# Altium footprint library Flight_Controller.PcbLib: 21 footprints (part 2 of 2)
Each footprint in its own frame and in the unit in brackets; x right, y up, seen from the top. Pads: shape width x height; smd on the part's side, far side on the other; paste and mask are expansions set on the pad; w line width, h text height; cw(c..) or ccw(c..) is an arc to the next point about the centre after c.
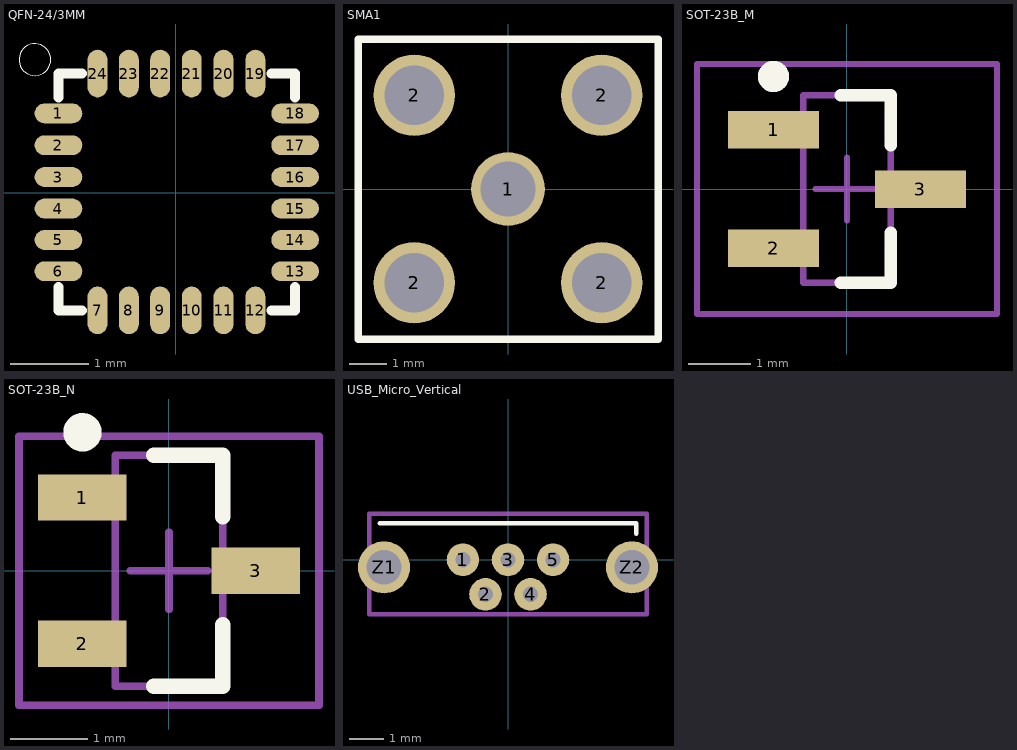
[diagram p1: the footprints below, top view; thin cyan lines are the x and y axes]

## QFN-24/3MM [mil]
pads (24):
  rrect100% 24x10 smd: 1(-59.06,40) 2(-59.06,24) 3(-59.06,8) 4(-59.06,-7.87) 5(-59.06,-23.62) 6(-59.06,-39.37) 13(60,-39.37) 14(60,-23.62) 15(60,-7.87) 16(60,8) 17(60,24) 18(60,40)
  rrect100% 10x24 smd: 7(-39.37,-59.06) 8(-23.62,-59.06) 9(-7.87,-59.06) 10(8,-59.06) 11(24,-59.06) 12(40,-59.06) 19(40,60) 20(24,60) 21(8,60) 22(-7.87,60) 23(-23.62,60) 24(-39.37,60)
Top Overlay:
  circle w0: c-70.87,67 r8
  lines w5: -59.06,-47.24 -59.06,-59.06 -47.24,-59.06 ; -59.06,48 -59.06,60 -47.24,60 ; 48,-59.06 60,-59.06 60,-47.24 ; 48,60 60,60 60,48
3D body: height 35.43, standoff 0, extent -59.1,-59.09 59.09,59.1

## SMA1 [mm]
pads (5):
  round 2 hole 1.5: 1(0,0)
  round 2.2 / inner round 2.2 / far side oval 2.8x2.2 hole 1.6: 2(-2.54,-2.54) 2(-2.54,2.54) 2(2.54,-2.54) 2(2.54,2.54)
Top Overlay:
  lines w0.203: -4.064,-4.064 -4.064,4.064 4.064,4.064 4.064,-4.064 -4.064,-4.064
3D body: height 9.55, standoff -3.9, extent -3.155,-3.155 3.155,3.155

## SOT-23B_M [mm] "SOT23, 3-Leads, Body 2.9x1.3mm, Pitch 0.95mm, Lead Span 2.4mm, IPC Low Density"
height 1.14
pads (3):
  rect 1.45x0.6 smd: 1(-1.175,0.95) 2(-1.175,-0.95) 3(1.175,0)
Top Overlay:
  circle w0.25: c-1.175,1.8 r0.125
  lines w0.2: -0.1,-1.5 0.7,-1.5 0.7,-0.7 ; -0.1,1.5 0.7,1.5 0.7,0.7
Mechanical 13:
  lines w0.1: -0.7,-1.5 0.7,-1.5 0.7,1.5 -0.7,1.5 -0.7,-1.5
Mechanical 15:
  lines w0.1: -0.5,0 0.5,0 ; 0,-0.5 0,0.5 ; -2.4,-2 2.4,-2 2.4,2 -2.4,2 -2.4,-2
3D body: height 1.14, standoff 0, extent -0.7,-1.5 0.7,1.5

## SOT-23B_N [mm] "SOT23, 3-Leads, Body 2.9x1.3mm, Pitch 0.95mm, Lead Span 2.4mm, IPC Medium Density"
height 1.14
pads (3):
  rect 1.15x0.6 smd: 1(-1.125,0.95) 2(-1.125,-0.95) 3(1.125,0)
Top Overlay:
  circle w0.25: c-1.125,1.8 r0.125
  lines w0.2: -0.2,-1.5 0.7,-1.5 0.7,-0.7 ; -0.2,1.5 0.7,1.5 0.7,0.7
Mechanical 13:
  lines w0.1: -0.7,-1.5 0.7,-1.5 0.7,1.5 -0.7,1.5 -0.7,-1.5
Mechanical 15:
  lines w0.1: -0.5,0 0.5,0 ; 0,-0.5 0,0.5 ; -1.95,-1.75 1.95,-1.75 1.95,1.75 -1.95,1.75 -1.95,-1.75
3D body: height 1.14, standoff 0, extent -0.7,-1.5 0.7,1.5

## USB_Micro_Vertical [mm] "WR-COM_USB_Micro Type B_Vertical_THT Micro Type B Vertical THT"
height 5.61
pads (7):
  round 0.94 hole 0.44 mask+0: 1(-1.3,0) 2(-0.65,-1) 3(0,0) 4(0.65,-1) 5(1.3,0)
  round 1.5 hole 1 mask+0: Z1(-3.575,-0.22) Z2(3.575,-0.22)
Top Overlay:
  lines w0.127: -3.7,1.05 3.7,1.05 3.7,0.75
Mechanical 15:
  lines w0.127: -4,-1.575 4,-1.575 4,1.325 -4,1.325 -4,-1.575
3D body: height 5.62, standoff -1.53, extent -3.995,-1.575 4.005,1.325